# Altium schematic symbol library CL21B225KAFNNNE.SchLib: 1 symbol
Pins are listed as number, name and electrical type; pins without a type are passive.

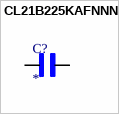
[diagram p0: symbol CL21B225KAFNNNE]

## CL21B225KAFNNNE
designator C?
2.2 ÂµF Â±10% 25V Ceramic Capacitor X7R 0805 (2012 Metric); MF: Samsung; MP: CL21B225KAFNNNE; SnapEDA_Link: https://www.snapeda.com/parts/CL21B225KAFNNNE/Samsung/view-part/?ref=snap; Package: SMD-2 Samsung; Value: *; Check_prices: https://www.snapeda.com/parts/CL21B225KAFNNNE/Samsung/view-part/?ref=eda
footprint CAPC2012X135N
pins: 1, 2